# EAGLE library part EDGE15/30 (library GW-devices)
Hirose 1mm FPC connector
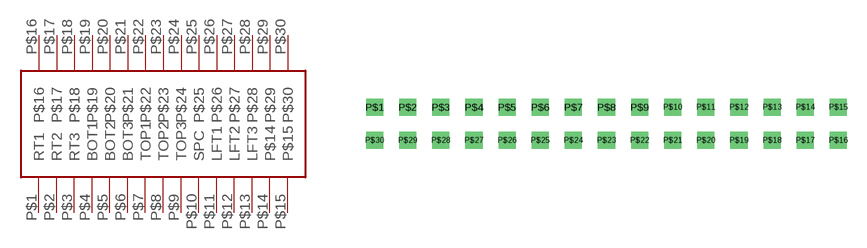
[diagram p3: symbol with the pads of EDGE15/30; footprint EDGE15/30]

Designator prefix -

## EDGE15/30  [EDGE15/30]
P$1  RT1
P$2  RT2
P$3  RT3
P$4  BOT1
P$5  BOT2
P$6  BOT3
P$7  TOP1
P$8  TOP2
P$9  TOP3
P$10  SPC
P$11  LFT1
P$12  LFT2
P$13  LFT3
P$14  P$14
P$15  P$15
P$16  P$16
P$17  P$17
P$18  P$18
P$19  P$19
P$20  P$20
P$21  P$21
P$22  P$22
P$23  P$23
P$24  P$24
P$25  P$25
P$26  P$26
P$27  P$27
P$28  P$28
P$29  P$29
P$30  P$30

## Footprint EDGE15/30 (pad centres in mm)
drill 0.8 square: P$1 -17.78,1.27; P$2 -15.24,1.27; P$3 -12.7,1.27; P$4 -10.16,1.27; P$5 -7.62,1.27; P$6 -5.08,1.27; P$7 -2.54,1.27; P$8 0,1.27; P$9 2.54,1.27; P$10 5.08,1.27; P$11 7.62,1.27; P$12 10.16,1.27; P$13 12.7,1.27; P$14 15.24,1.27; P$15 17.78,1.27; P$16 17.78,-1.27; P$17 15.24,-1.27; P$18 12.7,-1.27; P$19 10.16,-1.27; P$20 7.62,-1.27; P$21 5.08,-1.27; P$22 2.54,-1.27; P$23 0,-1.27; P$24 -2.54,-1.27; P$25 -5.08,-1.27; P$26 -7.62,-1.27; P$27 -10.16,-1.27; P$28 -12.7,-1.27; P$29 -15.24,-1.27; P$30 -17.78,-1.27